# Altium footprint library S8421-45R_1.PcbLib: 1 footprints
Each footprint in its own frame and in the unit in brackets; x right, y up, seen from the top. Pads: shape width x height; smd on the part's side, far side on the other; paste and mask are expansions set on the pad; w line width, h text height; cw(c..) or ccw(c..) is an arc to the next point about the centre after c.
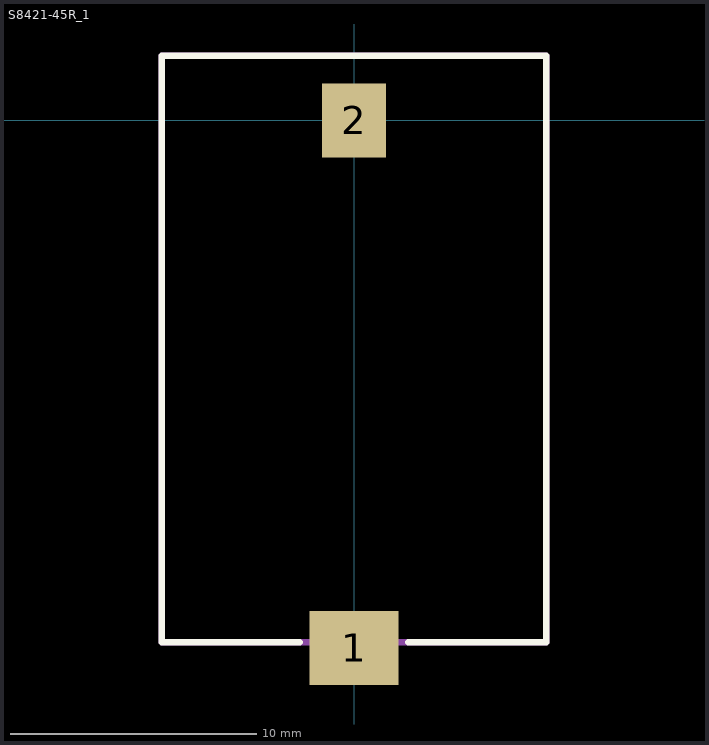
[diagram p0: the footprint, top view; thin cyan lines are the x and y axes]

## S8421-45R_1 [mm]
pads (2):
  rect 3.6x3 smd: 1(0,-21.4)
  rect 2.6x3 smd: 2(0,0)
Top Overlay:
  lines w0.254: -2.2,-21.173 -7.8,-21.173 -7.8,2.617 7.8,2.617 7.8,-21.173 2.2,-21.173
Mechanical 15:
  lines w0.254: -7.8,-21.173 7.8,-21.173 7.8,2.617 -7.8,2.617 -7.8,-21.173
3D body "S8421-45R.stp": height 5.8, standoff -4.65, extent -10,-3.376 10,3.376